# Altium footprint library LW4.PcbLib: 40 footprints (part 3 of 3)
Each footprint in its own frame and in the unit in brackets; x right, y up, seen from the top. Pads: shape width x height; smd on the part's side, far side on the other; paste and mask are expansions set on the pad; w line width, h text height; cw(c..) or ccw(c..) is an arc to the next point about the centre after c.
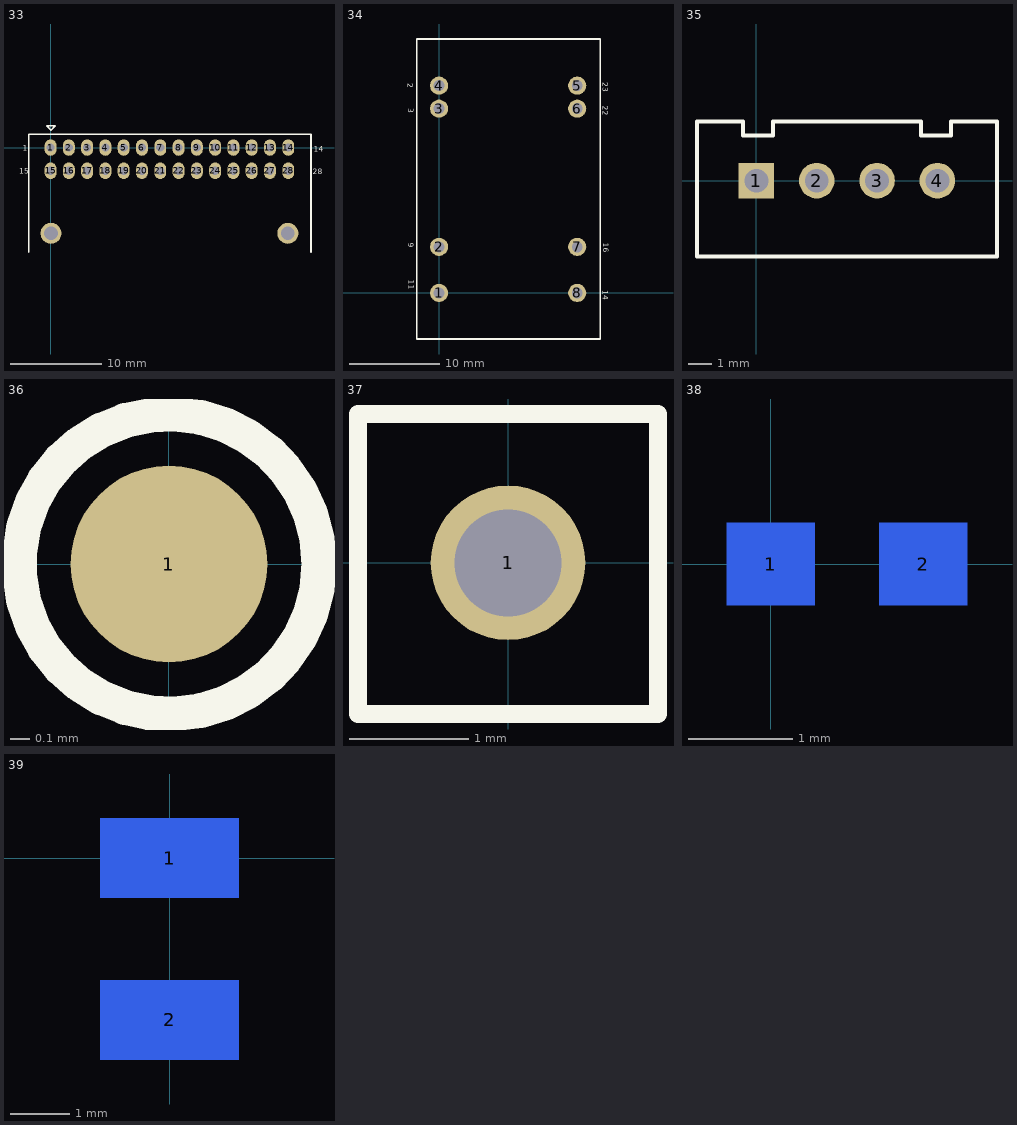
[diagram p2: the footprints below, top view; thin cyan lines are the x and y axes]

## 33 [mm]
pads (30):
  oval 1.3x1.8 hole 0.9: 1(0,0) 2(2,0) 3(4,0) 4(6,0) 5(8,0) 6(10,0) 7(12,0) 8(14,0) 9(16,0) 10(18,0) 11(20,0) 12(22,0) 13(24,0) 14(26,0) 15(0,-2.54) 16(2,-2.54) 17(4,-2.54) 18(6,-2.54) 19(8,-2.54) 20(10,-2.54) 21(12,-2.54) 22(14,-2.54) 23(16,-2.54) 24(18,-2.54) 25(20,-2.54) 26(22,-2.54) 27(24,-2.54) 28(26,-2.54)
  round 2.3 hole 1.5: ""(0.046,-9.379) ""(25.954,-9.379)
Top Overlay:
  lines w0.178: -2.369,-11.439 -2.369,1.463 28.492,1.463 28.492,-11.439 ; -0.43,2.372 0.05,1.892 0.531,2.372 -0.43,2.372
  text "1" at -3.058,-0.377 h0.6
  text "15" at -3.45,-2.841 h0.6
  text "14" at 28.762,-0.458 h0.6
  text "28" at 28.672,-2.901 h0.6

## 34 [mm]
pads (8):
  round 2 hole 1.2: 1(0,0) 2(0,5.08) 3(0,20.32) 4(0,22.86) 5(15.24,22.86) 6(15.24,20.32) 7(15.24,5.08) 8(15.24,0)
Top Overlay:
  lines w0.178: -2.467,-5.081 -2.467,28.004 17.779,28.004 17.779,-5.081 -2.467,-5.081
  text "3" at -3.417,20.368 h0.6
  text "2" at -3.477,23.13 h0.6
  text "9" at -3.397,5.507 h0.6
  text "11" at -3.317,1.474 h0.6
  text "14" at 18.049,0.313 h0.6
  text "22" at 18.079,20.638 h0.6
  text "23" at 18.029,23.24 h0.6
  text "16" at 18.087,5.533 h0.6

## 35 [mm]
pads (4):
  rect 1.5x1.5 hole 1: 1(0,0)
  round 1.5 hole 1: 2(2.54,0) 3(5.08,0) 4(7.62,0)
Top Overlay:
  lines w0.178: -2.502,-3.193 10.13,-3.193 10.13,2.492 8.198,2.492 8.198,1.902 6.927,1.902 6.927,2.492 0.701,2.492 0.701,1.902 -0.571,1.902 -0.571,2.492 -2.502,2.492 -2.502,-3.193

## 36 [mm]
pads (1):
  round 1 smd: 1(0,0)
Top Overlay:
  circle w0.178: c0,0 r0.762

## 37 [mm]
pads (1):
  round 1.3 hole 0.9: 1(0,0)
Top Overlay:
  lines w0.152: -1.261,-1.271 1.261,-1.271 1.261,1.251 -1.261,1.251 -1.261,-1.271

## 38 [mm]
pads (2):
  rect 0.85x0.8 smd far side: 1(0,0) 2(1.471,0)
Bottom Overlay:
  lines w0.127: 0.641,-0.27 0.641,0.27 ; 0.821,-0.27 0.821,0.27
  lines w0.152: 0.46,-0.601 -0.511,-0.601 cw(c-0.511,-0.4) -0.711,-0.4 -0.711,0.4 cw(c-0.511,0.4) -0.511,0.601 0.46,0.601 ; 1.011,-0.601 1.982,-0.601 ccw(c1.982,-0.4) 2.182,-0.4 2.182,0.4 ccw(c1.982,0.4) 1.982,0.601 1.011,0.601

## 39 [mm]
pads (2):
  rect 2.35x1.35 smd far side: 1(0,0) 2(0,-2.745)
Bottom Overlay:
  lines w0.178: -1.532,-2.035 -1.532,-3.857 1.512,-3.857 1.512,-2.035 ; -1.532,-0.681 -1.532,1.141 1.512,1.141 1.512,-0.681 ; -0.5,-1.632 0.44,-1.632 ; -0.5,-1.151 0.44,-1.151

## PCBComponent_1 [mm]